# EAGLE library part LTC1446 (library jason-test)
Dual DAC
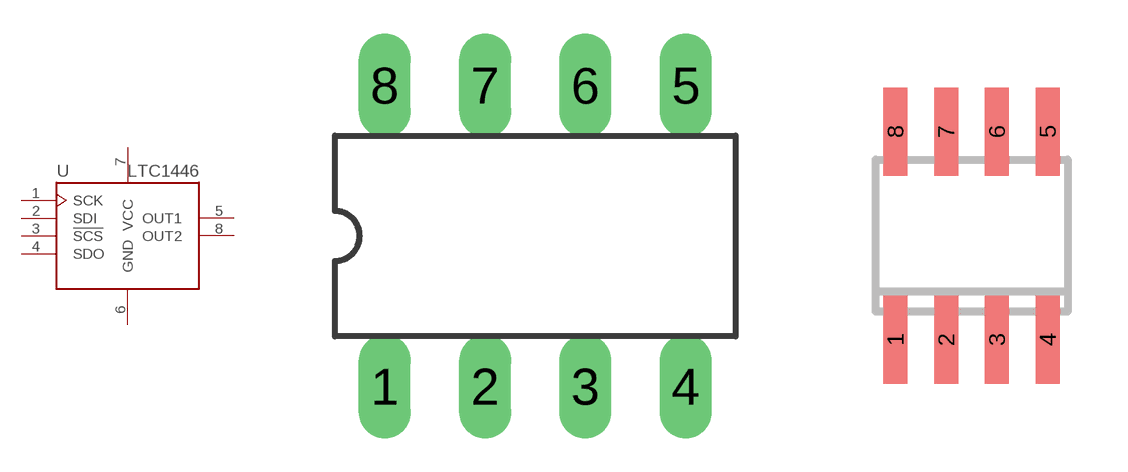
[diagram p40: symbol with the pads of DIL8; footprints DIL8, SO-08]

Designator prefix -

## LTC1446CN8  [DIL8]
1  SCK  in
2  SDI  in
3  !SCS  in
4  SDO
5  OUT1  out
6  GND  pwr
7  VCC  pwr
8  OUT2  out

## LTC1446CS8  [SO-08]
Pads as for DIL8

## Footprint DIL8 (pad centres in mm)
Dual In Line package type P
drill 0.813 long: 1 -3.81,-3.81; 2 -1.27,-3.81; 3 1.27,-3.81; 4 3.81,-3.81; 5 3.81,3.81; 6 1.27,3.81; 7 -1.27,3.81; 8 -3.81,3.81

## Footprint SO-08 (pad centres in mm)
Small Outline Narrow Plastic Gull Wing 150-mil body, package type SN
smd 0.6 x 2.2: 1 -1.905,-2.6; 2 -0.635,-2.6; 3 0.635,-2.6; 4 1.905,-2.6; 5 1.905,2.6; 6 0.635,2.6; 7 -0.635,2.6; 8 -1.905,2.6